# Altium schematic symbol library IPEX_MHF.SchLib: 1 symbol
Pins are listed as number, name and electrical type; pins without a type are passive.

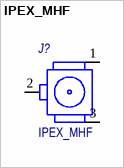
[diagram p0: symbol IPEX_MHF]

## IPEX_MHF
designator J?
RF Connector, Onboard Receptacle, IPEX MHF, 3x3mm; Потребление, Вт: 0.0; ComponentLink2URL: https://static.chipdip.ru/lib/947/DOC011947657.pdf; ComponentLink2Description: Datasheet; Назначение: RF Connector, Onboard Receptacle, IPEX MHF, 3x3mm; Наименование: IPEX_MHF
footprint IPEX_MHF (3x3мм)
pins: 1, 2, 3